# EAGLE library part MCP7940N (library Master)
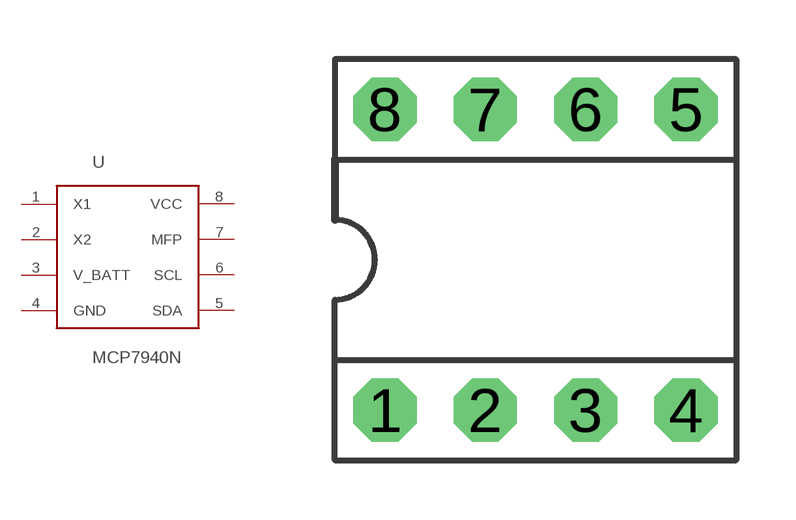
[diagram p7: symbol with the pads of DIL08; footprint DIL08]

Designator prefix -

## MCP7940NPDIP  [DIL08]
1  X1
2  X2
3  V_BATT
4  GND
5  SDA
6  SCL
7  MFP
8  VCC

## Footprint DIL08 (pad centres in mm)
Dual In Line
drill 0.813 pad 1.6 octagon: 1 -3.81,-3.81; 2 -1.27,-3.81; 3 1.27,-3.81; 4 3.81,-3.81; 5 3.81,3.81; 6 1.27,3.81; 7 -1.27,3.81; 8 -3.81,3.81